# Altium footprint library 排针.PcbLib: 88 footprints (part 6 of 6)
Each footprint in its own frame and in the unit in brackets; x right, y up, seen from the top. Pads: shape width x height; smd on the part's side, far side on the other; paste and mask are expansions set on the pad; w line width, h text height; cw(c..) or ccw(c..) is an arc to the next point about the centre after c.
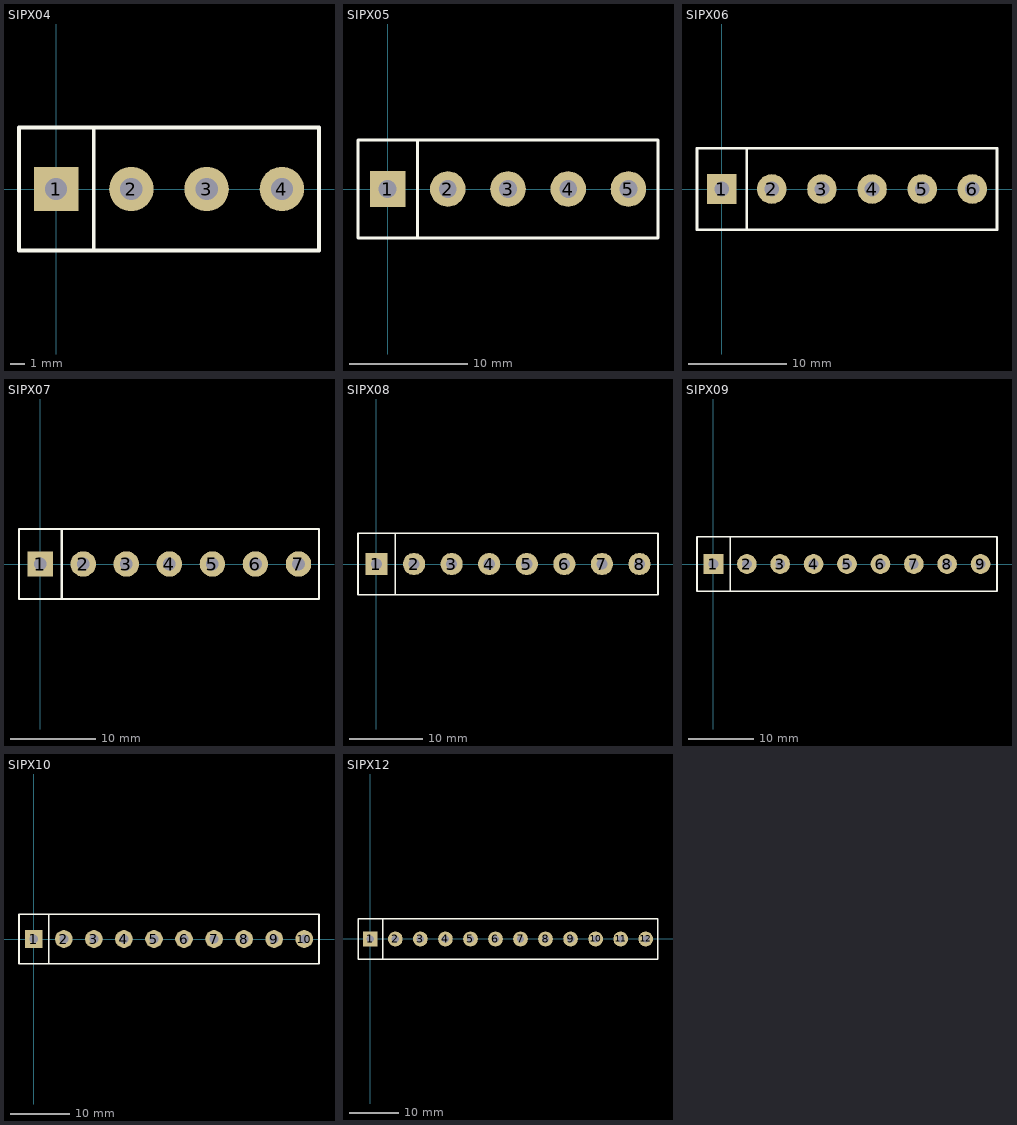
[diagram p5: the footprints below, top view; thin cyan lines are the x and y axes]

## SIPX04 [mm]
pads (4):
  rect 3x3 hole 1.5: 1(0,0)
  round 3 hole 1.5: 2(5.08,0) 3(10.16,0) 4(15.24,0)
Top Overlay:
  lines w0.254: 2.54,-4.15 2.54,4.15 ; -2.5,-4.15 -2.5,4.15 17.74,4.15 17.74,-4.15 -2.5,-4.15

## SIPX05 [mm]
pads (5):
  rect 3x3 hole 1.5: 1(0,0)
  round 3 hole 1.5: 2(5.08,0) 3(10.16,0) 4(15.24,0) 5(20.32,0)
Top Overlay:
  lines w0.254: 2.54,-4.15 2.54,4.15 ; -2.5,-4.15 -2.5,4.15 22.82,4.15 22.82,-4.15 -2.5,-4.15

## SIPX06 [mm]
pads (6):
  rect 3x3 hole 1.5: 1(0,0)
  round 3 hole 1.5: 2(5.08,0) 3(10.16,0) 4(15.24,0) 5(20.32,0) 6(25.4,0)
Top Overlay:
  lines w0.254: 2.54,-4.15 2.54,4.15 ; -2.5,-4.15 -2.5,4.15 27.9,4.15 27.9,-4.15 -2.5,-4.15

## SIPX07 [mm]
pads (7):
  rect 3x3 hole 1.5: 1(0,0)
  round 3 hole 1.5: 2(5.08,0) 3(10.16,0) 4(15.24,0) 5(20.32,0) 6(25.4,0) 7(30.48,0)
Top Overlay:
  lines w0.254: 2.54,-4.15 2.54,4.15 ; -2.5,-4.15 32.9,-4.15 32.9,4.15 -2.5,4.15 -2.5,-4.15

## SIPX08 [mm]
pads (8):
  rect 3x3 hole 1.5: 1(0,0)
  round 3 hole 1.5: 2(5.08,0) 3(10.16,0) 4(15.24,0) 5(20.32,0) 6(25.4,0) 7(30.48,0) 8(35.56,0)
Top Overlay:
  lines w0.254: 2.54,-4.15 2.54,4.15 ; -2.5,-4.15 38.06,-4.15 38.06,4.15 -2.5,4.15 -2.5,-4.15

## SIPX09 [mm]
pads (9):
  rect 3x3 hole 1.5: 1(0,0)
  round 3 hole 1.5: 2(5.08,0) 3(10.16,0) 4(15.24,0) 5(20.32,0) 6(25.4,0) 7(30.48,0) 8(35.56,0) 9(40.64,0)
Top Overlay:
  lines w0.254: 2.54,-4.15 2.54,4.15 ; -2.5,-4.15 -2.5,4.15 43.14,4.15 43.14,-4.15 -2.5,-4.15

## SIPX10 [mm]
pads (10):
  rect 3x3 hole 1.5: 1(0,0)
  round 3 hole 1.5: 2(5.08,0) 3(10.16,0) 4(15.24,0) 5(20.32,0) 6(25.4,0) 7(30.48,0) 8(35.56,0) 9(40.64,0) 10(45.72,0)
Top Overlay:
  lines w0.254: 2.54,-4.15 2.54,4.15 ; -2.5,-4.15 48.22,-4.15 48.22,4.15 -2.5,4.15 -2.5,-4.15

## SIPX12 [mm]
pads (12):
  rect 3x3 hole 1.5: 1(0,0)
  round 3 hole 1.5: 2(5.08,0) 3(10.16,0) 4(15.24,0) 5(20.32,0) 6(25.4,0) 7(30.48,0) 8(35.56,0) 9(40.64,0) 10(45.72,0) 11(50.8,0) 12(55.88,0)
Top Overlay:
  lines w0.254: 2.54,-4.15 2.54,4.15 ; -2.5,-4.15 -2.5,4.15 58.38,4.15 58.38,-4.15 -2.5,-4.15